# Altium footprint library CON 04304508_1.PcbLib: 1 footprints
Each footprint in its own frame and in the unit in brackets; x right, y up, seen from the top. Pads: shape width x height; smd on the part's side, far side on the other; paste and mask are expansions set on the pad; w line width, h text height; cw(c..) or ccw(c..) is an arc to the next point about the centre after c.
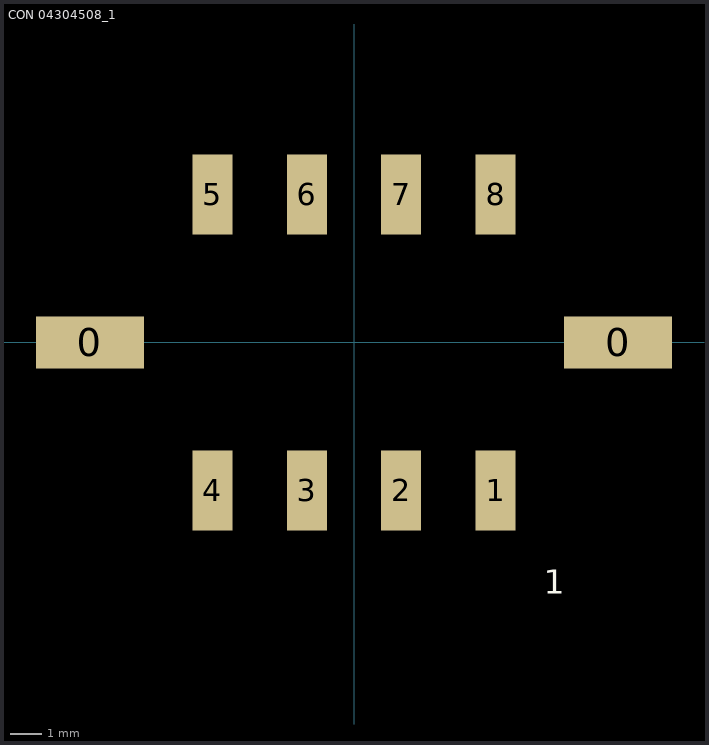
[diagram p0: the footprint, top view; thin cyan lines are the x and y axes]

## CON 04304508_1 [mil]
pads (10):
  rect 135x65 smd: 0(-330,0) 0(330,0)
  rect 50x100 smd: 1(177,-185) 2(59,-185) 3(-59,-185) 4(-177,-185) 5(-177,185) 6(-59,185) 7(59,185) 8(177,185)
TopOverlay:
  text "1" at 237,-314 h30
3D body: height 390.76, standoff 0.6, extent -386.81,-220.47 386.82,220.48